# Altium footprint library AUVic_PCB_Library_Op_amps.PcbLib: 4 footprints
Each footprint in its own frame and in the unit in brackets; x right, y up, seen from the top. Pads: shape width x height; smd on the part's side, far side on the other; paste and mask are expansions set on the pad; w line width, h text height; cw(c..) or ccw(c..) is an arc to the next point about the centre after c.
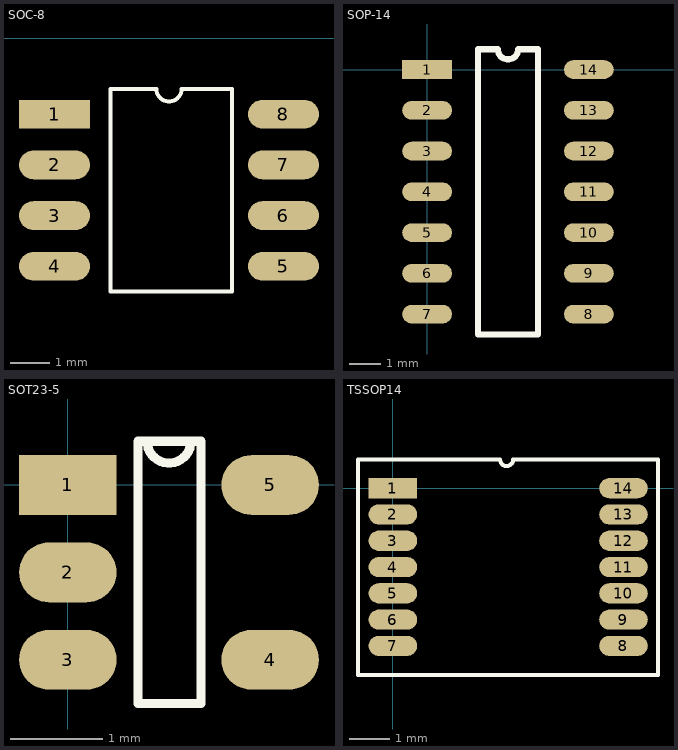
[diagram p0: the footprints below, top view; thin cyan lines are the x and y axes]

## SOC-8 [mm]
pads (8):
  rect 1.78x0.72 smd: 1(3.934,-1.905)
  oval 1.78x0.72 smd: 2(3.934,-3.175) 3(3.934,-4.445) 4(3.934,-5.715) 5(9.67,-5.715) 6(9.67,-4.445) 7(9.67,-3.175) 8(9.67,-1.905)
Top Overlay:
  lines w0.1: 5.334,-6.35 8.382,-6.35 8.382,-1.27 7.12,-1.27 cw(c6.802,-1.27) 6.485,-1.27 5.334,-1.27 5.334,-6.35
3D body "User Library-SOIC8_JEDEC_MS-012AA.step": height 1.75, standoff -0.01, extent 3.758,-6.31 9.958,-1.31

## SOP-14 [mm]
pads (14):
  rect 1.6x0.6 smd: 1(0,0)
  oval 1.6x0.6 smd: 2(0,-1.31) 3(0,-2.62) 4(0,-3.93) 5(0,-5.24) 6(0,-6.55) 7(0,-7.86) 8(5.2,-7.86) 9(5.2,-6.55) 10(5.2,-5.24) 11(5.2,-3.93) 12(5.2,-2.62) 13(5.2,-1.31) 14(5.2,0)
Top Overlay:
  lines w0.2: 1.635,-8.515 1.635,0.655 2.272,0.655 ccw(c2.6,0.655) 2.927,0.655 3.565,0.655 3.565,-8.515 1.635,-8.515
3D body: height 1.8, standoff 0, extent 1.634,-8.516 3.566,0.656
3D body: height 0.9, standoff 0, extent -0.228,-0.381 1.55,0.381
3D body: height 0.9, standoff 0, extent -0.229,-2.997 1.549,-2.235
3D body: height 0.9, standoff 0, extent -0.254,-1.651 1.524,-0.889
3D body: height 0.9, standoff 0, extent -0.254,-4.318 1.524,-3.556
3D body: height 0.9, standoff 0, extent -0.254,-5.588 1.524,-4.826
3D body: height 0.9, standoff 0, extent 3.683,-5.588 5.461,-4.826
3D body: height 0.9, standoff 0, extent 3.556,-4.318 5.334,-3.556
3D body: height 0.9, standoff 0, extent 3.556,-3.048 5.334,-2.286
3D body: height 0.9, standoff 0, extent 3.683,-1.676 5.461,-0.914
3D body: height 0.9, standoff 0, extent 3.683,-0.381 5.461,0.381
3D body: height 0.9, standoff 0, extent -0.254,-6.934 1.524,-6.172
3D body: height 0.9, standoff 0, extent -0.279,-8.23 1.499,-7.468
3D body: height 0.9, standoff 0, extent 3.683,-8.255 5.461,-7.493
3D body: height 0.9, standoff 0, extent 3.683,-6.909 5.461,-6.147

## SOT23-5 [mm]
pads (5):
  rect 1.06x0.65 smd: 1(0,0)
  oval 1.06x0.65 smd: 2(0,-0.95) 3(0,-1.9) 4(2.2,-1.9) 5(2.2,0)
Top Overlay:
  lines w0.1: 0.762,-2.375 0.762,0.475 1.338,0.475 cw(c1.1,0.475) 0.863,0.475 1.448,0.475 1.448,-2.375 0.762,-2.375
3D body "SW3DPS-SOT-23-5-DEFAULT.STEP": height 1.05, standoff -0.05, extent -0.183,-2.44 2.317,0.56

## TSSOP14 [mm]
pads (14):
  rect 1.2x0.5 smd: 1(0,0)
  oval 1.2x0.5 smd: 2(0,-0.65) 3(0,-1.3) 4(0,-1.95) 5(0,-2.6) 6(0,-3.25) 7(0,-3.9) 8(5.7,-3.9) 9(5.7,-3.25) 10(5.7,-2.6) 11(5.7,-1.95) 12(5.7,-1.3) 13(5.7,-0.65) 14(5.7,0)
Top Overlay:
  lines w0.1: -0.864,-4.623 -0.864,0.711 2.301,0.711 2.647,0.711 ccw(c2.809,0.711) 2.972,0.711 3.399,0.711 6.553,0.711 6.553,-4.623 -0.864,-4.623
3D body "SW3dPS-TSSOP14-1.STEP": height 1.1, standoff 0, extent -0.33,-4.456 6.07,0.544